# Altium footprint library CONN_HDR_LP.PcbLib: 20 footprints (part 1 of 2)
Each footprint in its own frame and in the unit in brackets; x right, y up, seen from the top. Pads: shape width x height; smd on the part's side, far side on the other; paste and mask are expansions set on the pad; w line width, h text height; cw(c..) or ccw(c..) is an arc to the next point about the centre after c.
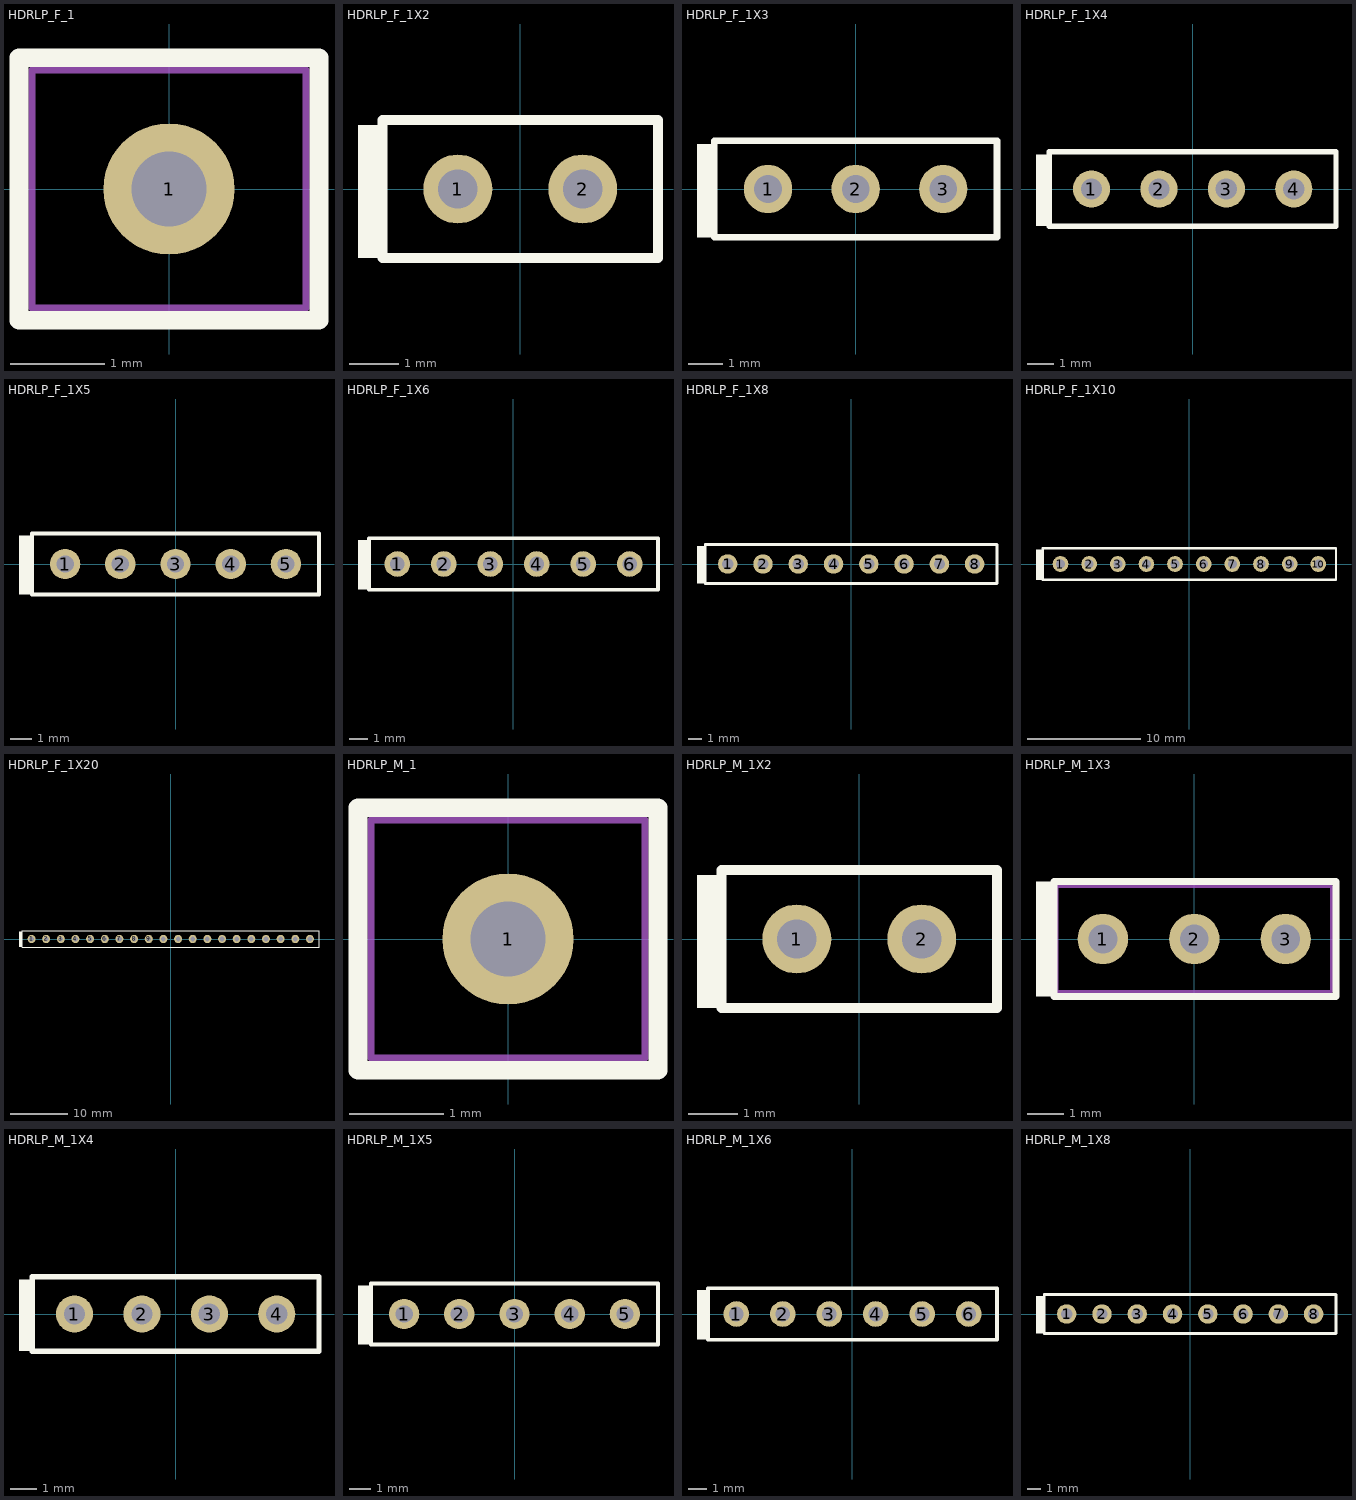
[diagram p0: the footprints below, top view; thin cyan lines are the x and y axes]

## HDRLP_F_1 [mm] "Connector Socket, Single-row 1-position, 0.100\" pitch"
height 4.191
pads (1):
  round 1.4 / inner round 1.4 / far side oval 1.4x2.2 hole 0.8: 1(0,0)
Top Overlay:
  lines w0.2: -1.6,-1.4 1.6,-1.4 1.6,1.4 -1.6,1.4 -1.6,-1.4
Mechanical 13:
  lines w0.076: -1.46,-1.27 1.46,-1.27 1.46,1.27 -1.46,1.27 -1.46,-1.27
3D body "PinHeaderMating 1S.stp": height 4.19, standoff -3.17, extent -1.46,-1.27 1.46,1.27

## HDRLP_F_1X2 [mm] "Connector Socket, Single-row 1-position, 0.100\" pitch"
height 4.191
pads (2):
  round 1.4 / inner round 1.4 / far side oval 1.4x2.2 hole 0.8 mask+0.1: 1(-1.27,0) 2(1.27,0)
Top Overlay:
  rectangle: -3.3,-1.4 -2.8,1.3
  lines w0.2: -2.8,-1.4 2.8,-1.4 2.8,1.4 -2.8,1.4 -2.8,-1.4
3D body "PinHeaderMating 1S.stp": height 4.19, standoff -3.17, extent -0.19,-1.27 2.73,1.27
3D body "PinHeaderMating 1S.stp": height 4.19, standoff -3.17, extent -2.73,-1.27 0.19,1.27

## HDRLP_F_1X3 [mm] "Connector Socket, Single-row 1-position, 0.100\" pitch"
height 4.191
pads (3):
  round 1.4 / inner round 1.4 / far side oval 1.4x2.2 hole 0.8: 1(-2.54,0) 2(0,0) 3(2.54,0)
Top Overlay:
  rectangle: -4.6,-1.4 -4.1,1.3
  lines w0.2: -4.1,-1.4 -4.1,1.4 4.1,1.4 4.1,-1.4 -4.1,-1.4
3D body "PinHeaderMating 1S.stp": height 4.19, standoff -3.17, extent 1.08,-1.27 4,1.27
3D body "PinHeaderMating 1S.stp": height 4.19, standoff -3.17, extent -4,-1.27 -1.08,1.27
3D body "PinHeaderMating 1S.stp": height 4.19, standoff -3.17, extent -1.46,-1.27 1.46,1.27

## HDRLP_F_1X4 [mm] "Connector Socket, Single-row 1-position, 0.100\" pitch"
height 4.191
pads (4):
  round 1.4 / inner round 1.4 / far side oval 1.4x2.2 hole 0.8 mask+0.1: 1(-3.81,0) 2(-1.27,0) 3(1.27,0) 4(3.81,0)
Top Overlay:
  rectangle: -5.9,-1.4 -5.4,1.3
  lines w0.2: -5.4,-1.4 5.4,-1.4 5.4,1.4 -5.4,1.4 -5.4,-1.4
3D body "PinHeaderMating 1S.stp": height 4.19, standoff -3.17, extent 2.35,-1.27 5.27,1.27
3D body "PinHeaderMating 1S.stp": height 4.19, standoff -3.17, extent -0.19,-1.27 2.73,1.27
3D body "PinHeaderMating 1S.stp": height 4.19, standoff -3.17, extent -2.73,-1.27 0.19,1.27
3D body "PinHeaderMating 1S.stp": height 4.19, standoff -3.17, extent -5.27,-1.27 -2.35,1.27

## HDRLP_F_1X5 [mm] "Connector Socket, Single-row 1-position, 0.100\" pitch"
height 4.191
pads (5):
  round 1.4 / inner round 1.4 / far side oval 1.4x2.2 hole 0.8 mask+0.1: 1(-5.08,0) 2(-2.54,0) 3(0,0) 4(2.54,0) 5(5.08,0)
Top Overlay:
  rectangle: -7.2,-1.4 -6.7,1.3
  lines w0.2: -6.6,-1.4 6.6,-1.4 6.6,1.4 -6.6,1.4 -6.6,-1.4
3D body "PinHeaderMating 1S.stp": height 4.19, standoff -3.17, extent -1.46,-1.27 1.46,1.27
3D body "PinHeaderMating 1S.stp": height 4.19, standoff -3.17, extent -4,-1.27 -1.08,1.27
3D body "PinHeaderMating 1S.stp": height 4.19, standoff -3.17, extent -6.54,-1.27 -3.62,1.27
3D body "PinHeaderMating 1S.stp": height 4.19, standoff -3.17, extent 1.08,-1.27 4,1.27
3D body "PinHeaderMating 1S.stp": height 4.19, standoff -3.17, extent 3.62,-1.27 6.54,1.27

## HDRLP_F_1X6 [mm] "Connector Socket, Single-row 1-position, 0.100\" pitch"
height 4.191
pads (6):
  round 1.4 / inner round 1.4 / far side oval 1.4x2.2 hole 0.8 mask+0.1: 1(-6.35,0) 2(-3.81,0) 3(-1.27,0) 4(1.27,0) 5(3.81,0) 6(6.35,0)
Top Overlay:
  rectangle: -8.5,-1.4 -8,1.3
  lines w0.2: -7.9,-1.4 -7.9,1.4 7.9,1.4 7.9,-1.4 -7.9,-1.4
3D body "PinHeaderMating 1S.stp": height 4.19, standoff -3.17, extent -2.73,-1.27 0.19,1.27
3D body "PinHeaderMating 1S.stp": height 4.19, standoff -3.17, extent -7.81,-1.27 -4.89,1.27
3D body "PinHeaderMating 1S.stp": height 4.19, standoff -3.17, extent -5.27,-1.27 -2.35,1.27
3D body "PinHeaderMating 1S.stp": height 4.19, standoff -3.17, extent 2.35,-1.27 5.27,1.27
3D body "PinHeaderMating 1S.stp": height 4.19, standoff -3.17, extent -0.19,-1.27 2.73,1.27
3D body "PinHeaderMating 1S.stp": height 4.19, standoff -3.17, extent 4.89,-1.27 7.81,1.27

## HDRLP_F_1X8 [mm] "Connector Socket, Single-row 1-position, 0.100\" pitch"
height 4.191
pads (8):
  round 1.4 / inner round 1.4 / far side oval 1.4x2.2 hole 0.8 mask+0.1: 1(-8.89,0) 2(-6.35,0) 3(-3.81,0) 4(-1.27,0) 5(1.27,0) 6(3.81,0) 7(6.35,0) 8(8.89,0)
Top Overlay:
  rectangle: -11.1,-1.4 -10.6,1.3
  lines w0.2: -10.5,-1.4 -10.5,1.4 10.5,1.4 10.5,-1.4 -10.5,-1.4
3D body "PinHeaderMating 1S.stp": height 4.19, standoff -3.17, extent 7.43,-1.27 10.35,1.27
3D body "PinHeaderMating 1S.stp": height 4.19, standoff -3.17, extent 2.35,-1.27 5.27,1.27
3D body "PinHeaderMating 1S.stp": height 4.19, standoff -3.17, extent 4.89,-1.27 7.81,1.27
3D body "PinHeaderMating 1S.stp": height 4.19, standoff -3.17, extent -0.19,-1.27 2.73,1.27
3D body "PinHeaderMating 1S.stp": height 4.19, standoff -3.17, extent -5.27,-1.27 -2.35,1.27
3D body "PinHeaderMating 1S.stp": height 4.19, standoff -3.17, extent -2.73,-1.27 0.19,1.27
3D body "PinHeaderMating 1S.stp": height 4.19, standoff -3.17, extent -10.35,-1.27 -7.43,1.27
3D body "PinHeaderMating 1S.stp": height 4.19, standoff -3.17, extent -7.81,-1.27 -4.89,1.27

## HDRLP_F_1X10 [mm] "Connector Socket, Single-row 1-position, 0.100\" pitch"
height 4.191
pads (10):
  round 1.4 / inner round 1.4 / far side oval 1.4x2.2 hole 0.8 mask+0.1: 1(-11.43,0) 2(-8.89,0) 3(-6.35,0) 4(-3.81,0) 5(-1.27,0) 6(1.27,0) 7(3.81,0) 8(6.35,0) 9(8.89,0) 10(11.43,0)
Top Overlay:
  rectangle: -13.6,-1.4 -13.1,1.3
  lines w0.2: -13,-1.4 -13,1.4 13,1.4 13,-1.4 -13,-1.4
3D body "PinHeaderMating 1S.stp": height 4.19, standoff -3.17, extent 7.43,-1.27 10.35,1.27
3D body "PinHeaderMating 1S.stp": height 4.19, standoff -3.17, extent 9.97,-1.27 12.89,1.27
3D body "PinHeaderMating 1S.stp": height 4.19, standoff -3.17, extent 4.89,-1.27 7.81,1.27
3D body "PinHeaderMating 1S.stp": height 4.19, standoff -3.17, extent -0.19,-1.27 2.73,1.27
3D body "PinHeaderMating 1S.stp": height 4.19, standoff -3.17, extent 2.35,-1.27 5.27,1.27
3D body "PinHeaderMating 1S.stp": height 4.19, standoff -3.17, extent -7.81,-1.27 -4.89,1.27
3D body "PinHeaderMating 1S.stp": height 4.19, standoff -3.17, extent -12.89,-1.27 -9.97,1.27
3D body "PinHeaderMating 1S.stp": height 4.19, standoff -3.17, extent -10.35,-1.27 -7.43,1.27
3D body "PinHeaderMating 1S.stp": height 4.19, standoff -3.17, extent -5.27,-1.27 -2.35,1.27
3D body "PinHeaderMating 1S.stp": height 4.19, standoff -3.17, extent -2.73,-1.27 0.19,1.27

## HDRLP_F_1X20 [mm] "HEADER, FEMALE, MILITARY"
height 15
pads (20):
  round 1.4 / inner round 1.4 / far side oval 1.4x2.2 hole 0.8: 1(-24.13,0) 2(-21.59,0) 3(-19.05,0) 4(-16.51,0) 5(-13.97,0) 6(-11.43,0) 7(-8.89,0) 8(-6.35,0) 9(-3.81,0) 10(-1.27,0) 11(1.27,0) 12(3.81,0) 13(6.35,0) 14(8.89,0) 15(11.43,0) 16(13.97,0) 17(16.51,0) 18(19.05,0) 19(21.59,0) 20(24.13,0)
Top Overlay:
  rectangle: -26.3,-1.4 -25.8,1.3
  lines w0.2: -25.7,-1.4 -25.7,1.4 25.7,1.4 25.7,-1.4 -25.7,-1.4
3D body "PinHeaderMating 1S.stp": height 4.19, standoff -3.17, extent 9.97,-1.27 12.89,1.27
3D body "PinHeaderMating 1S.stp": height 4.19, standoff -3.17, extent 7.43,-1.27 10.35,1.27
3D body "PinHeaderMating 1S.stp": height 4.19, standoff -3.17, extent 2.35,-1.27 5.27,1.27
3D body "PinHeaderMating 1S.stp": height 4.19, standoff -3.17, extent -0.19,-1.27 2.73,1.27
3D body "PinHeaderMating 1S.stp": height 4.19, standoff -3.17, extent 4.89,-1.27 7.81,1.27
3D body "PinHeaderMating 1S.stp": height 4.19, standoff -3.17, extent 15.05,-1.27 17.97,1.27
3D body "PinHeaderMating 1S.stp": height 4.19, standoff -3.17, extent 12.51,-1.27 15.43,1.27
3D body "PinHeaderMating 1S.stp": height 4.19, standoff -3.17, extent 17.59,-1.27 20.51,1.27
3D body "PinHeaderMating 1S.stp": height 4.19, standoff -3.17, extent 22.67,-1.27 25.59,1.27
3D body "PinHeaderMating 1S.stp": height 4.19, standoff -3.17, extent 20.13,-1.27 23.05,1.27
3D body "PinHeaderMating 1S.stp": height 4.19, standoff -3.17, extent -5.27,-1.27 -2.35,1.27
3D body "PinHeaderMating 1S.stp": height 4.19, standoff -3.17, extent -2.73,-1.27 0.19,1.27
3D body "PinHeaderMating 1S.stp": height 4.19, standoff -3.17, extent -7.81,-1.27 -4.89,1.27
3D body "PinHeaderMating 1S.stp": height 4.19, standoff -3.17, extent -12.89,-1.27 -9.97,1.27
3D body "PinHeaderMating 1S.stp": height 4.19, standoff -3.17, extent -10.35,-1.27 -7.43,1.27
3D body "PinHeaderMating 1S.stp": height 4.19, standoff -3.17, extent -20.51,-1.27 -17.59,1.27
3D body "PinHeaderMating 1S.stp": height 4.19, standoff -3.17, extent -25.59,-1.27 -22.67,1.27
3D body "PinHeaderMating 1S.stp": height 4.19, standoff -3.17, extent -23.05,-1.27 -20.13,1.27
3D body "PinHeaderMating 1S.stp": height 4.19, standoff -3.17, extent -17.97,-1.27 -15.05,1.27
3D body "PinHeaderMating 1S.stp": height 4.19, standoff -3.17, extent -15.43,-1.27 -12.51,1.27

## HDRLP_M_1 [mm] "HEADER, LowProfile, Single-row 1-position, 0.100\" pitch"
height 6.782
pads (1):
  round 1.4 / inner round 1.4 / far side oval 1.4x2.2 hole 0.8: 1(0,0)
Top Overlay:
  lines w0.2: -1.6,-1.4 -1.6,1.4 1.6,1.4 1.6,-1.4 -1.6,-1.4
Mechanical 13:
  lines w0.076: -1.46,-1.27 -1.46,1.27 1.46,1.27 1.46,-1.27 -1.46,-1.27
3D body "PinHeaderMating 1P.stp": height 6.78, standoff -3, extent -1.46,-1.27 1.46,1.27

## HDRLP_M_1X2 [mm] "Connector Socket, Single-row 1-position, 0.100\" pitch"
height 4.191
pads (2):
  round 1.4 / inner round 1.4 / far side oval 1.4x2.2 hole 0.8 mask+0.1: 1(-1.27,0) 2(1.27,0)
Top Overlay:
  rectangle: -3.3,-1.4 -2.8,1.3
  lines w0.2: -2.8,-1.4 2.8,-1.4 2.8,1.4 -2.8,1.4 -2.8,-1.4
3D body "PinHeaderMating 1P.stp": height 6.78, standoff -3, extent -0.19,-1.27 2.73,1.27
3D body "PinHeaderMating 1P.stp": height 6.78, standoff -3, extent -2.73,-1.27 0.19,1.27

## HDRLP_M_1X3 [mm] "Connector Header, Single-row 3-position, 0.100\" pitch"
height 6.782
pads (3):
  round 1.4 / inner round 1.4 / far side oval 1.4x2.2 hole 0.8: 1(-2.54,0) 2(0,0) 3(2.54,0)
Top Overlay:
  rectangle: -4.4,-1.6 -3.9,1.6
  lines w0.2: -3.9,-1.6 -3.9,1.6 3.937,1.6 3.937,-1.6 -3.9,-1.6
Mechanical 13:
  lines w0.076: -3.81,-1.46 -3.81,1.46 3.81,1.46 3.81,-1.46 -3.81,-1.46
3D body "PinHeaderMating 1P.stp": height 6.78, standoff -3, extent 1.27,-1.46 3.81,1.46
3D body "PinHeaderMating 1P.stp": height 6.78, standoff -3, extent -1.27,-1.46 1.27,1.46
3D body "PinHeaderMating 1P.stp": height 6.78, standoff -3, extent -3.81,-1.46 -1.27,1.46

## HDRLP_M_1X4 [mm] "Connector Socket, Single-row 1-position, 0.100\" pitch"
height 4.191
pads (4):
  round 1.4 / inner round 1.4 / far side oval 1.4x2.2 hole 0.8 mask+0.1: 1(-3.81,0) 2(-1.27,0) 3(1.27,0) 4(3.81,0)
Top Overlay:
  rectangle: -5.9,-1.4 -5.4,1.3
  lines w0.2: -5.4,-1.4 -5.4,1.4 5.4,1.4 5.4,-1.4 -5.4,-1.4
3D body "PinHeaderMating 1P.stp": height 6.78, standoff -3, extent 2.35,-1.27 5.27,1.27
3D body "PinHeaderMating 1P.stp": height 6.78, standoff -3, extent -0.19,-1.27 2.73,1.27
3D body "PinHeaderMating 1P.stp": height 6.78, standoff -3, extent -2.73,-1.27 0.19,1.27
3D body "PinHeaderMating 1P.stp": height 6.78, standoff -3, extent -5.27,-1.27 -2.35,1.27

## HDRLP_M_1X5 [mm] "Connector Socket, Single-row 1-position, 0.100\" pitch"
height 4.191
pads (5):
  round 1.4 / inner round 1.4 / far side oval 1.4x2.2 hole 0.8 mask+0.1: 1(-5.08,0) 2(-2.54,0) 3(0,0) 4(2.54,0) 5(5.08,0)
Top Overlay:
  rectangle: -7.2,-1.4 -6.7,1.3
  lines w0.2: -6.6,-1.4 -6.6,1.4 6.6,1.4 6.6,-1.4 -6.6,-1.4
3D body "PinHeaderMating 1P.stp": height 6.78, standoff -3, extent 3.62,-1.27 6.54,1.27
3D body "PinHeaderMating 1P.stp": height 6.78, standoff -3, extent 1.08,-1.27 4,1.27
3D body "PinHeaderMating 1P.stp": height 6.78, standoff -3, extent -1.46,-1.27 1.46,1.27
3D body "PinHeaderMating 1P.stp": height 6.78, standoff -3, extent -4,-1.27 -1.08,1.27
3D body "PinHeaderMating 1P.stp": height 6.78, standoff -3, extent -6.54,-1.27 -3.62,1.27

## HDRLP_M_1X6 [mm] "Connector Socket, Single-row 1-position, 0.100\" pitch"
height 4.191
pads (6):
  round 1.4 / inner round 1.4 / far side oval 1.4x2.2 hole 0.8 mask+0.1: 1(-6.35,0) 2(-3.81,0) 3(-1.27,0) 4(1.27,0) 5(3.81,0) 6(6.35,0)
Top Overlay:
  rectangle: -8.5,-1.4 -8,1.3
  lines w0.2: -7.9,-1.4 -7.9,1.4 7.9,1.4 7.9,-1.4 -7.9,-1.4
3D body "PinHeaderMating 1P.stp": height 6.78, standoff -3, extent 4.89,-1.27 7.81,1.27
3D body "PinHeaderMating 1P.stp": height 6.78, standoff -3, extent 2.35,-1.27 5.27,1.27
3D body "PinHeaderMating 1P.stp": height 6.78, standoff -3, extent -0.19,-1.27 2.73,1.27
3D body "PinHeaderMating 1P.stp": height 6.78, standoff -3, extent -2.73,-1.27 0.19,1.27
3D body "PinHeaderMating 1P.stp": height 6.78, standoff -3, extent -5.27,-1.27 -2.35,1.27
3D body "PinHeaderMating 1P.stp": height 6.78, standoff -3, extent -7.81,-1.27 -4.89,1.27

## HDRLP_M_1X8 [mm] "Connector Socket, Single-row 1-position, 0.100\" pitch"
height 4.191
pads (8):
  round 1.4 / inner round 1.4 / far side oval 1.4x2.2 hole 0.8 mask+0.1: 1(-8.89,0) 2(-6.35,0) 3(-3.81,0) 4(-1.27,0) 5(1.27,0) 6(3.81,0) 7(6.35,0) 8(8.89,0)
Top Overlay:
  rectangle: -11.1,-1.4 -10.6,1.3
  lines w0.2: -10.5,-1.4 10.5,-1.4 10.5,1.4 -10.5,1.4 -10.5,-1.4
3D body "PinHeaderMating 1P.stp": height 6.78, standoff -3, extent -0.19,-1.27 2.73,1.27
3D body "PinHeaderMating 1P.stp": height 6.78, standoff -3, extent 2.35,-1.27 5.27,1.27
3D body "PinHeaderMating 1P.stp": height 6.78, standoff -3, extent 4.89,-1.27 7.81,1.27
3D body "PinHeaderMating 1P.stp": height 6.78, standoff -3, extent 7.43,-1.27 10.35,1.27
3D body "PinHeaderMating 1P.stp": height 6.78, standoff -3, extent -2.73,-1.27 0.19,1.27
3D body "PinHeaderMating 1P.stp": height 6.78, standoff -3, extent -5.27,-1.27 -2.35,1.27
3D body "PinHeaderMating 1P.stp": height 6.78, standoff -3, extent -7.81,-1.27 -4.89,1.27
3D body "PinHeaderMating 1P.stp": height 6.78, standoff -3, extent -10.35,-1.27 -7.43,1.27